# EAGLE library part AVR_ISP_BOX (library FaBo-PIN)
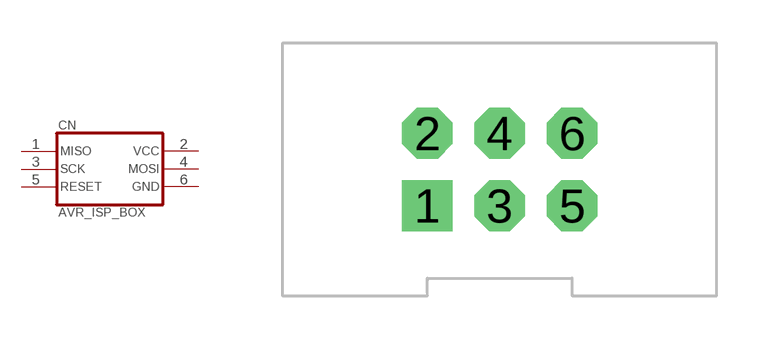
[diagram p14: symbol with the pads of BOX_2X3; footprint BOX_2X3]

Designator prefix CN

## AVR_ISP_BOX  [BOX_2X3]
1  1  pas
2  2  pas
3  3  pas
4  4  pas
5  5  pas
6  6  pas

## Footprint BOX_2X3 (pad centres in mm)
drill 1.1 pad 1.778 square: 1 -2.54,-1.27
drill 1.1 pad 1.778 octagon: 2 -2.54,1.27; 3 0,-1.27; 4 0,1.27; 5 2.54,-1.27; 6 2.54,1.27